# EAGLE library part 95503-6891 (library con-RJ45)
RJ-45 CONNECTOR 8 Pin, Vertical
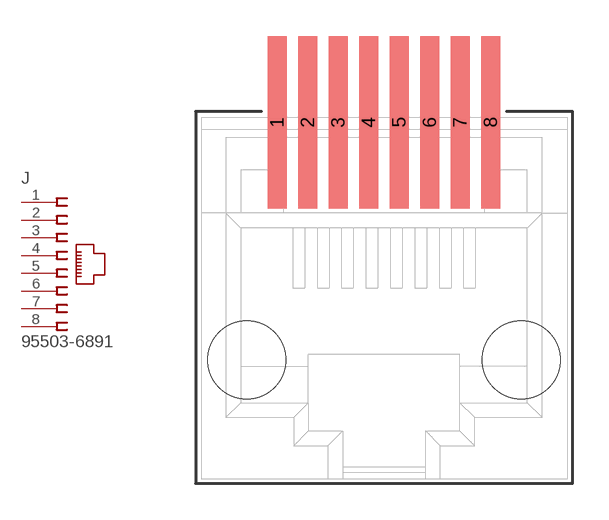
[diagram p0: symbol with the pads of 95503-6891; footprint 95503-6891]

Designator prefix J

## 95503-6891 (DIGIKEY: WM5586-ND)  [95503-6891]
1  1  pas
2  2  pas
3  3  pas
4  4  pas
5  5  pas
6  6  pas
7  7  pas
8  8  pas

## Footprint 95503-6891 (pad centres in mm)
RJ45 CONNECTOR 8-PIN, VERTICAL
smd 0.8 x 7.2: 1 -4.445,9.9; 2 -3.175,9.9; 3 -1.905,9.9; 4 -0.635,9.9; 5 0.635,9.9; 6 1.905,9.9; 7 3.175,9.9; 8 4.445,9.9
hole 3.25 at -5.715,0
hole 3.25 at 5.715,0